# EAGLE library part ADG3304B?Z (library ad74111_adg3304)
Low Voltage, 1.15 V to 5.5 V, 4-Channel, Bidirectional Logic Level Translator Source: http://www.analog.com/UploadedFiles/Data_Sheets/642205373ADG3304_b.pdf
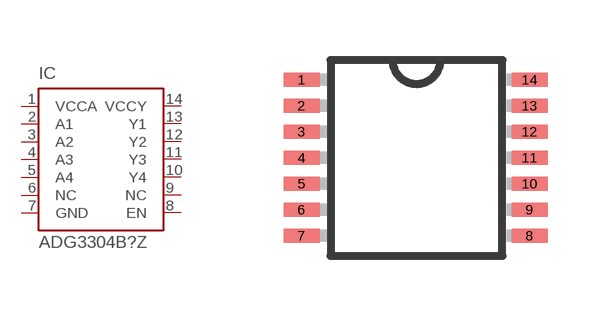
[diagram p0: symbol with the pads of TSSOP14; footprint TSSOP14]

Designator prefix IC

## ADG3304BRUZ  [TSSOP14]
1  VCCA  pwr
2  A1
3  A2
4  A3
5  A4
6  NC  nc
7  GND  pwr
8  EN  in
9  NC  nc
10  Y4
11  Y3
12  Y2
13  Y1
14  VCCY  pwr

## Footprint TSSOP14 (pad centres in mm)
14-Lead Thin Shrink Small Outline Package [TSSOP]
smd 0.9 x 0.35: 1 -2.875,1.95; 2 -2.875,1.3; 3 -2.875,0.65; 4 -2.875,0; 5 -2.875,-0.65; 6 -2.875,-1.3; 7 -2.875,-1.95; 8 2.825,-1.95; 9 2.825,-1.3; 10 2.825,-0.65; 11 2.825,0; 12 2.825,0.65; 13 2.825,1.3; 14 2.825,1.95